# Altium footprint library Connect.PcbLib: 69 footprints (part 1 of 5)
Each footprint in its own frame and in the unit in brackets; x right, y up, seen from the top. Pads: shape width x height; smd on the part's side, far side on the other; paste and mask are expansions set on the pad; w line width, h text height; cw(c..) or ccw(c..) is an arc to the next point about the centre after c.
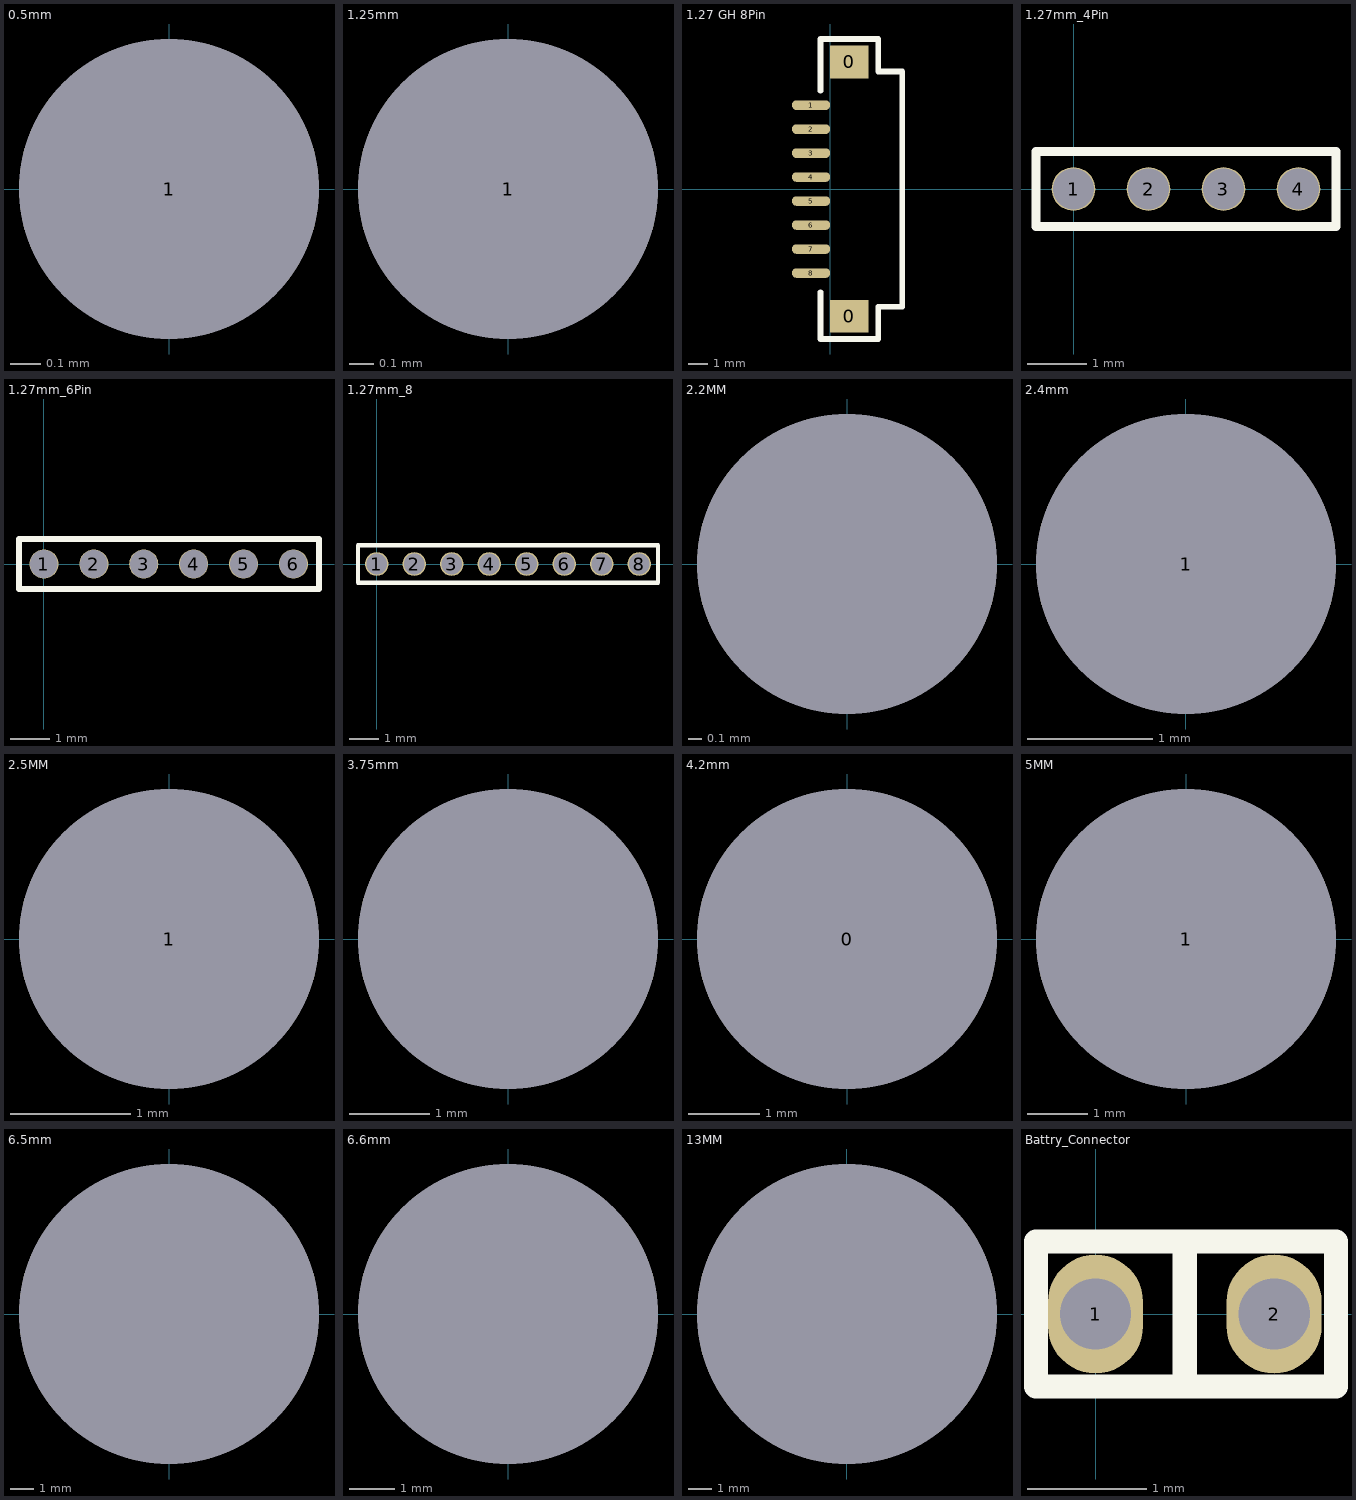
[diagram p0: the footprints below, top view; thin cyan lines are the x and y axes]

## 0.5mm [mm]
pads (1):
  round 1 hole 1: 1(0,0)

## 1.25mm [mm]
pads (1):
  round 1.25 hole 1.25: 1(0,0)

## 1.27 GH 8Pin [mm]
pads (10):
  rect 2x1.7 smd: 0(1,-6.625) 0(1,6.625)
  oval 2x0.5 smd: 1(-1,4.375) 2(-1,3.125) 3(-1,1.875) 4(-1,0.625) 5(-1,-0.625) 6(-1,-1.875) 7(-1,-3.125) 8(-1,-4.375)
Top Overlay:
  lines w0.3: -0.5,-5.375 -0.5,-7.81 2.5,-7.81 2.5,-6.125 3.75,-6.125 3.75,6.125 2.5,6.125 2.5,7.82 -0.5,7.82 -0.5,5.125

## 1.27mm_4Pin [mm]
pads (4):
  round 0.74 hole 0.7: 1(0,0) 2(1.27,0) 3(2.54,0) 4(3.81,0)
Top Overlay:
  lines w0.15: -0.635,-0.635 4.445,-0.635 4.445,0 4.445,0.635 -0.635,0.635 -0.635,0 -0.635,-0.635

## 1.27mm_6Pin [mm]
pads (6):
  round 0.74 hole 0.7: 1(0,0) 2(1.27,0) 3(2.54,0) 4(3.81,0) 5(5.08,0) 6(6.35,0)
Top Overlay:
  lines w0.15: -0.635,-0.635 7,-0.635 7,0.635 -0.635,0.635 -0.635,0 -0.635,-0.635

## 1.27mm_8 [mm]
pads (8):
  round 0.8 hole 0.7: 1(0,0) 2(1.27,0) 3(2.54,0) 4(3.81,0) 5(5.08,0) 6(6.35,0) 7(7.62,0) 8(8.89,0)
Top Overlay:
  lines w0.15: -0.635,-0.635 -0.635,0 -0.635,0.635 9.525,0.635 9.525,-0.635 -0.635,-0.635

## 2.2MM [mm]
pads (1):
  round 2.2 hole 2.2: ""(0,0)

## 2.4mm [mm]
pads (1):
  round 2.4 hole 2.4: 1(0,0)

## 2.5MM [mm]
pads (1):
  round 2.5 hole 2.5: 1(0,0)

## 3.75mm [mm]
pads (1):
  round 3.75 hole 3.75 unplated: ""(0,0)

## 4.2mm [mm]
pads (1):
  round 4.2 hole 4.2: 0(0,0)

## 5MM [mm]
pads (1):
  round 5 hole 5: 1(0,0)

## 6.5mm [mm]
pads (1):
  round 13 hole 13 unplated: ""(0,0)

## 6.6mm [mm]
pads (1):
  round 6.6 hole 6.6 unplated: ""(0,0)

## 13MM [mm]
pads (1):
  round 13 hole 13: ""(0,0)

## Battry_Connector [mm]
pads (2):
  oval 0.8x1 hole 0.6: 1(0,0) 2(1.5,0)
Top Overlay:
  lines w0.203: 0.75,-0.59 0.75,0.61 ; -0.5,-0.61 2.02,-0.61 2.02,0.61 -0.5,0.61 -0.5,-0.61